# Altium schematic symbol library ATBN441JS.Schlib: 1 symbol
Pins are listed as number, name and electrical type; pins without a type are passive.

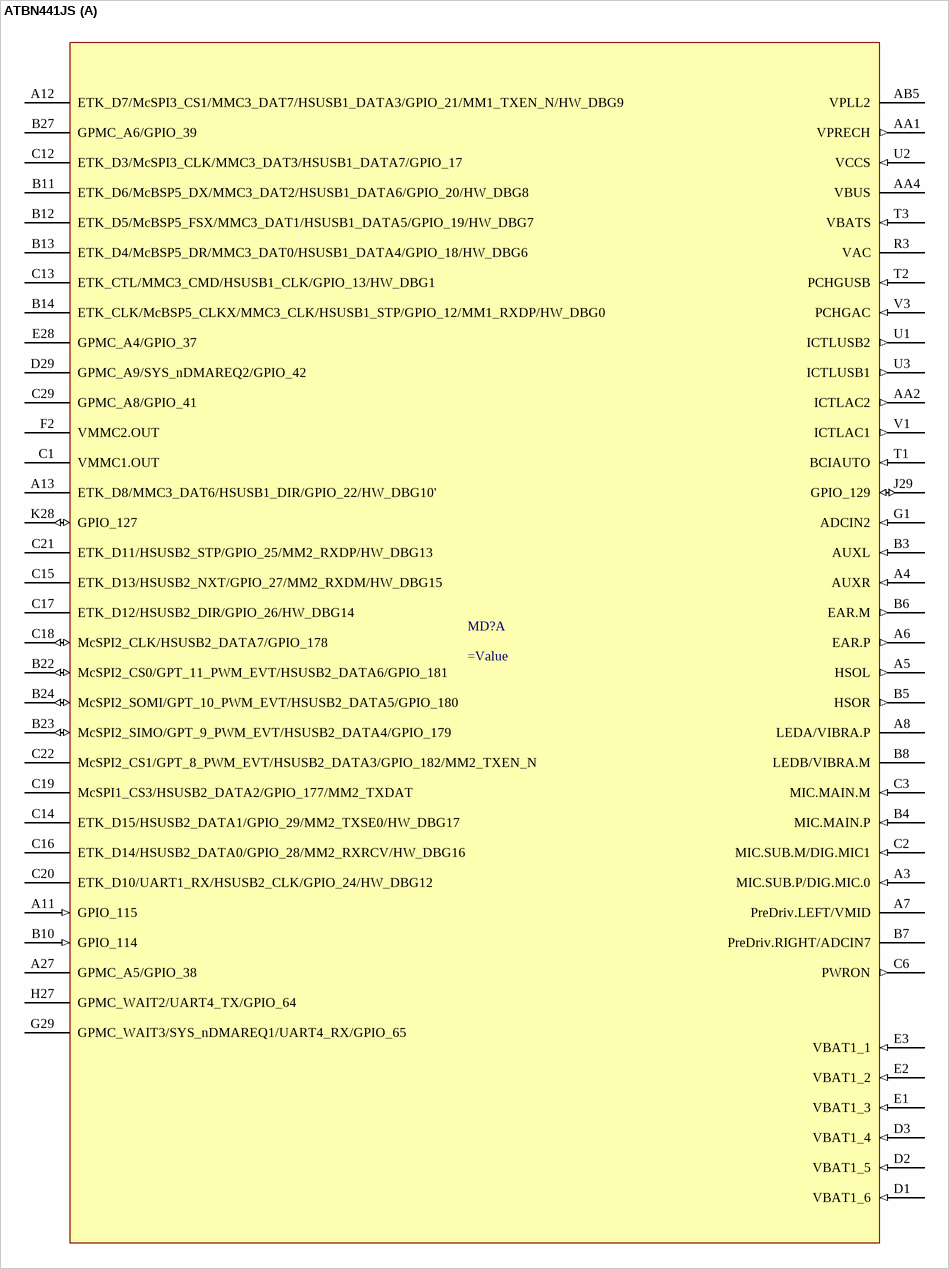
[diagram p0: symbol ATBN441JS]

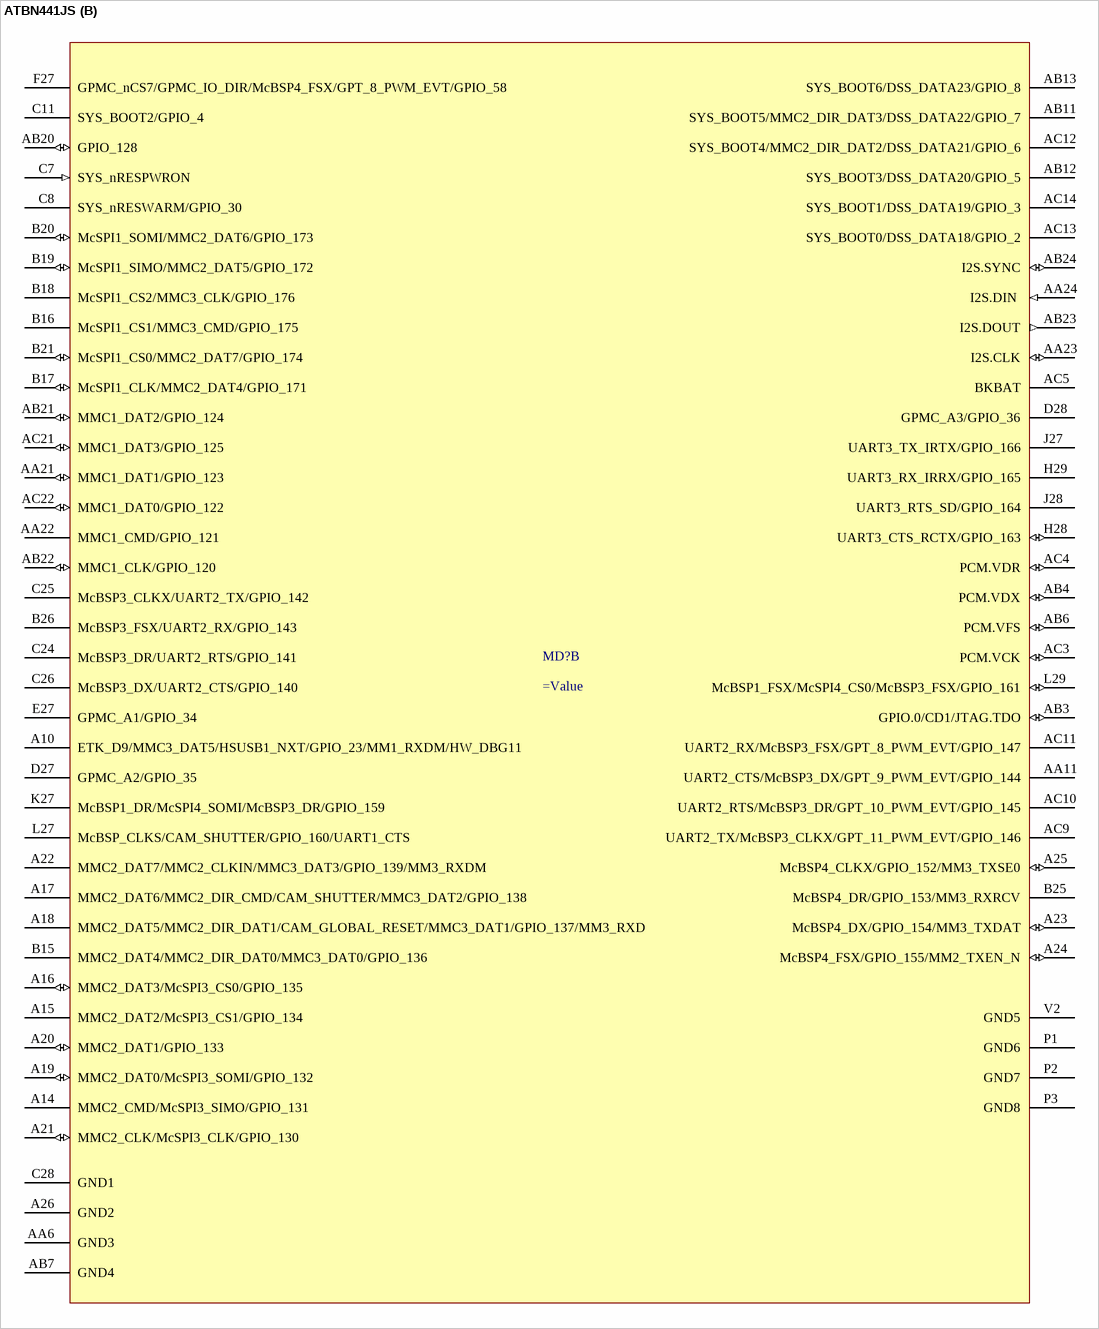
[diagram p1: symbol ATBN441JS]

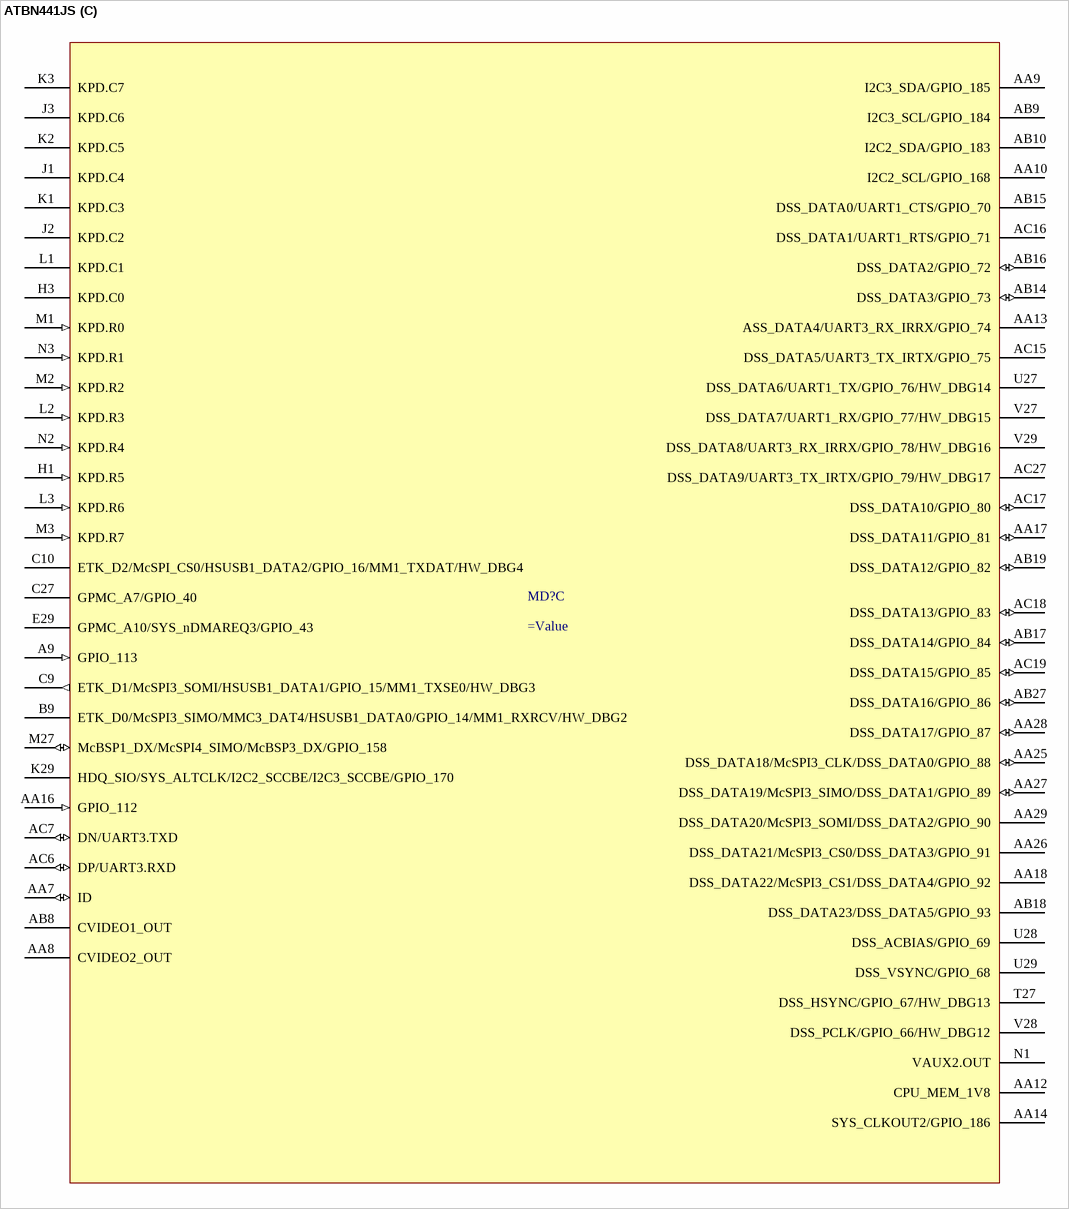
[diagram p2: symbol ATBN441JS]

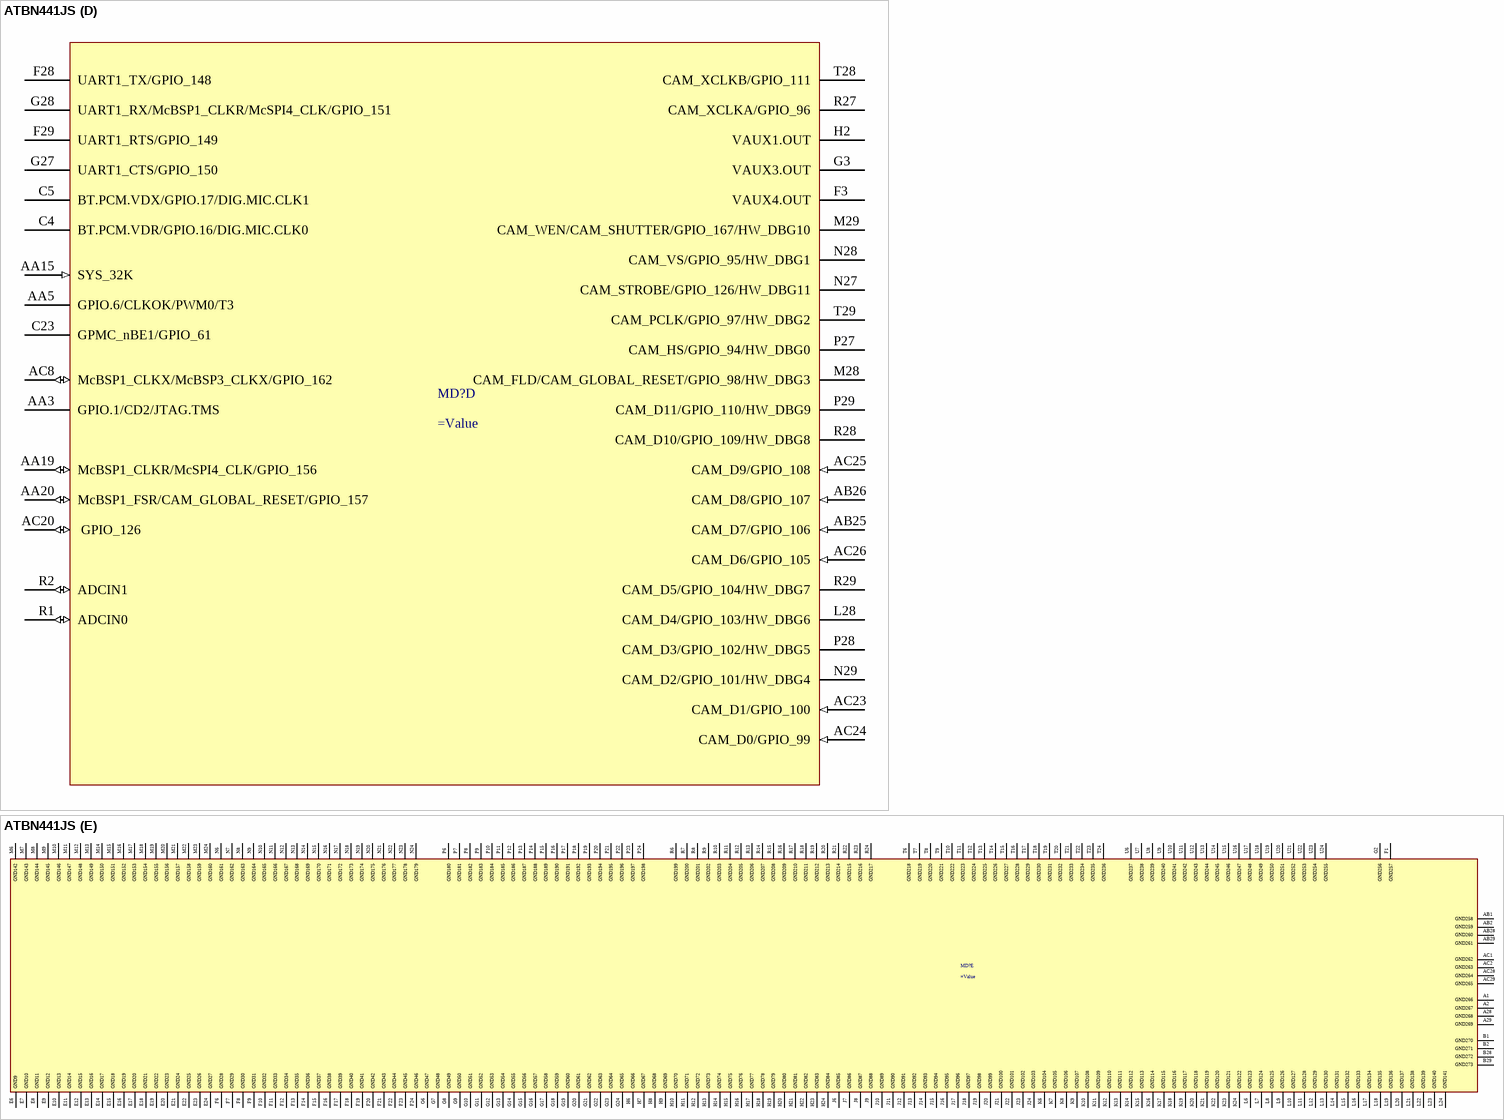
[diagram p3: symbol ATBN441JS]

## ATBN441JS
designator MD?
=Description
part A pins: A3 MIC.SUB.P/DIG.MIC.0 (in), A4 AUXR (in), A5 HSOL (out), A6 EAR.P (out), A7 PreDriv.LEFT/VMID, A8 LEDA/VIBRA.P, A11 GPIO_115 (in), A12 ETK_D7/McSPI3_CS1/MMC3_DAT7/HSUSB1_DATA3/GPIO_21/MM1_TXEN_N/HW_DBG9, A13 ETK_D8/MMC3_DAT6/HSUSB1_DIR/GPIO_22/HW_DBG10', A27 GPMC_A5/GPIO_38, AA1 VPRECH (out), AA2 ICTLAC2 (out), AA4 VBUS (power), AB5 VPLL2 (power), B3 AUXL (in), B4 MIC.MAIN.P (in), B5 HSOR (out), B6 EAR.M (out), B7 PreDriv.RIGHT/ADCIN7, B8 LEDB/VIBRA.M, B10 GPIO_114 (in), B11 ETK_D6/McBSP5_DX/MMC3_DAT2/HSUSB1_DATA6/GPIO_20/HW_DBG8, B12 ETK_D5/McBSP5_FSX/MMC3_DAT1/HSUSB1_DATA5/GPIO_19/HW_DBG7, B13 ETK_D4/McBSP5_DR/MMC3_DAT0/HSUSB1_DATA4/GPIO_18/HW_DBG6, B14 ETK_CLK/McBSP5_CLKX/MMC3_CLK/HSUSB1_STP/GPIO_12/MM1_RXDP/HW_DBG0, B22 McSPI2_CS0/GPT_11_PWM_EVT/HSUSB2_DATA6/GPIO_181 (io), B23 McSPI2_SIMO/GPT_9_PWM_EVT/HSUSB2_DATA4/GPIO_179 (io), B24 McSPI2_SOMI/GPT_10_PWM_EVT/HSUSB2_DATA5/GPIO_180 (io), B27 GPMC_A6/GPIO_39, C1 VMMC1.OUT (power), C2 MIC.SUB.M/DIG.MIC1 (in), C3 MIC.MAIN.M (in), C6 PWRON (out), C12 ETK_D3/McSPI3_CLK/MMC3_DAT3/HSUSB1_DATA7/GPIO_17, C13 ETK_CTL/MMC3_CMD/HSUSB1_CLK/GPIO_13/HW_DBG1, C14 ETK_D15/HSUSB2_DATA1/GPIO_29/MM2_TXSE0/HW_DBG17, C15 ETK_D13/HSUSB2_NXT/GPIO_27/MM2_RXDM/HW_DBG15, C16 ETK_D14/HSUSB2_DATA0/GPIO_28/MM2_RXRCV/HW_DBG16, C17 ETK_D12/HSUSB2_DIR/GPIO_26/HW_DBG14, C18 McSPI2_CLK/HSUSB2_DATA7/GPIO_178 (io), C19 McSPI1_CS3/HSUSB2_DATA2/GPIO_177/MM2_TXDAT, C20 ETK_D10/UART1_RX/HSUSB2_CLK/GPIO_24/HW_DBG12, C21 ETK_D11/HSUSB2_STP/GPIO_25/MM2_RXDP/HW_DBG13, C22 McSPI2_CS1/GPT_8_PWM_EVT/HSUSB2_DATA3/GPIO_182/MM2_TXEN_N, C29 GPMC_A8/GPIO_41, D1 VBAT1_6 (in), D2 VBAT1_5 (in), D3 VBAT1_4 (in), D29 GPMC_A9/SYS_nDMAREQ2/GPIO_42, E1 VBAT1_3 (in), E2 VBAT1_2 (in), E3 VBAT1_1 (in), E28 GPMC_A4/GPIO_37, F2 VMMC2.OUT (power), G1 ADCIN2 (in), G29 GPMC_WAIT3/SYS_nDMAREQ1/UART4_RX/GPIO_65, H27 GPMC_WAIT2/UART4_TX/GPIO_64, J29 GPIO_129 (io), K28 GPIO_127 (io), R3 VAC (power), T1 BCIAUTO (in), T2 PCHGUSB (in), T3 VBATS (in), U1 ICTLUSB2 (out), U2 VCCS (in), U3 ICTLUSB1 (out), V1 ICTLAC1 (out), V3 PCHGAC (in)
part B pins: A10 ETK_D9/MMC3_DAT5/HSUSB1_NXT/GPIO_23/MM1_RXDM/HW_DBG11, A14 MMC2_CMD/McSPI3_SIMO/GPIO_131, A15 MMC2_DAT2/McSPI3_CS1/GPIO_134, A16 MMC2_DAT3/McSPI3_CS0/GPIO_135 (io), A17 MMC2_DAT6/MMC2_DIR_CMD/CAM_SHUTTER/MMC3_DAT2/GPIO_138, A18 MMC2_DAT5/MMC2_DIR_DAT1/CAM_GLOBAL_RESET/MMC3_DAT1/GPIO_137/MM3_RXD, A19 MMC2_DAT0/McSPI3_SOMI/GPIO_132 (io), A20 MMC2_DAT1/GPIO_133 (io), A21 MMC2_CLK/McSPI3_CLK/GPIO_130 (io), A22 MMC2_DAT7/MMC2_CLKIN/MMC3_DAT3/GPIO_139/MM3_RXDM, A23 McBSP4_DX/GPIO_154/MM3_TXDAT (io), A24 McBSP4_FSX/GPIO_155/MM2_TXEN_N (io), A25 McBSP4_CLKX/GPIO_152/MM3_TXSE0 (io), A26 GND2 (power), AA6 GND3 (power), AA11 UART2_CTS/McBSP3_DX/GPT_9_PWM_EVT/GPIO_144, AA21 MMC1_DAT1/GPIO_123 (io), AA22 MMC1_CMD/GPIO_121, AA23 I2S.CLK (io), AA24 I2S.DIN  (in), AB3 GPIO.0/CD1/JTAG.TDO (io), AB4 PCM.VDX (io), AB6 PCM.VFS (io), AB7 GND4 (power), AB11 SYS_BOOT5/MMC2_DIR_DAT3/DSS_DATA22/GPIO_7, AB12 SYS_BOOT3/DSS_DATA20/GPIO_5, AB13 SYS_BOOT6/DSS_DATA23/GPIO_8, AB20 GPIO_128 (io), AB21 MMC1_DAT2/GPIO_124 (io), AB22 MMC1_CLK/GPIO_120 (io), AB23 I2S.DOUT (out), AB24 I2S.SYNC (io), AC3 PCM.VCK (io), AC4 PCM.VDR (io), AC5 BKBAT, AC9 UART2_TX/McBSP3_CLKX/GPT_11_PWM_EVT/GPIO_146, AC10 UART2_RTS/McBSP3_DR/GPT_10_PWM_EVT/GPIO_145, AC11 UART2_RX/McBSP3_FSX/GPT_8_PWM_EVT/GPIO_147, AC12 SYS_BOOT4/MMC2_DIR_DAT2/DSS_DATA21/GPIO_6, AC13 SYS_BOOT0/DSS_DATA18/GPIO_2, AC14 SYS_BOOT1/DSS_DATA19/GPIO_3, AC21 MMC1_DAT3/GPIO_125 (io), AC22 MMC1_DAT0/GPIO_122 (io), B15 MMC2_DAT4/MMC2_DIR_DAT0/MMC3_DAT0/GPIO_136, B16 McSPI1_CS1/MMC3_CMD/GPIO_175, B17 McSPI1_CLK/MMC2_DAT4/GPIO_171 (io), B18 McSPI1_CS2/MMC3_CLK/GPIO_176, B19 McSPI1_SIMO/MMC2_DAT5/GPIO_172 (io), B20 McSPI1_SOMI/MMC2_DAT6/GPIO_173 (io), B21 McSPI1_CS0/MMC2_DAT7/GPIO_174 (io), B25 McBSP4_DR/GPIO_153/MM3_RXRCV, B26 McBSP3_FSX/UART2_RX/GPIO_143, C7 SYS_nRESPWRON (in), C8 SYS_nRESWARM/GPIO_30, C11 SYS_BOOT2/GPIO_4, C24 McBSP3_DR/UART2_RTS/GPIO_141, C25 McBSP3_CLKX/UART2_TX/GPIO_142, C26 McBSP3_DX/UART2_CTS/GPIO_140, C28 GND1 (power), D27 GPMC_A2/GPIO_35, D28 GPMC_A3/GPIO_36, E27 GPMC_A1/GPIO_34, F27 GPMC_nCS7/GPMC_IO_DIR/McBSP4_FSX/GPT_8_PWM_EVT/GPIO_58, H28 UART3_CTS_RCTX/GPIO_163 (io), H29 UART3_RX_IRRX/GPIO_165, J27 UART3_TX_IRTX/GPIO_166, J28 UART3_RTS_SD/GPIO_164, K27 McBSP1_DR/McSPI4_SOMI/McBSP3_DR/GPIO_159, L27 McBSP_CLKS/CAM_SHUTTER/GPIO_160/UART1_CTS, L29 McBSP1_FSX/McSPI4_CS0/McBSP3_FSX/GPIO_161 (io), P1 GND6 (power), P2 GND7 (power), P3 GND8 (power), V2 GND5 (power)
part C pins: A9 GPIO_113 (in), AA7 ID (io), AA8 CVIDEO2_OUT, AA9 I2C3_SDA/GPIO_185, AA10 I2C2_SCL/GPIO_168, AA12 CPU_MEM_1V8 (power), AA13 ASS_DATA4/UART3_RX_IRRX/GPIO_74, AA14 SYS_CLKOUT2/GPIO_186, AA16 GPIO_112 (in), AA17 DSS_DATA11/GPIO_81 (io), AA18 DSS_DATA22/McSPI3_CS1/DSS_DATA4/GPIO_92, AA25 DSS_DATA18/McSPI3_CLK/DSS_DATA0/GPIO_88 (io), AA26 DSS_DATA21/McSPI3_CS0/DSS_DATA3/GPIO_91, AA27 DSS_DATA19/McSPI3_SIMO/DSS_DATA1/GPIO_89 (io), AA28 DSS_DATA17/GPIO_87 (io), AA29 DSS_DATA20/McSPI3_SOMI/DSS_DATA2/GPIO_90, AB8 CVIDEO1_OUT, AB9 I2C3_SCL/GPIO_184, AB10 I2C2_SDA/GPIO_183, AB14 DSS_DATA3/GPIO_73 (io), AB15 DSS_DATA0/UART1_CTS/GPIO_70, AB16 DSS_DATA2/GPIO_72 (io), AB17 DSS_DATA14/GPIO_84 (io), AB18 DSS_DATA23/DSS_DATA5/GPIO_93, AB19 DSS_DATA12/GPIO_82 (io), AB27 DSS_DATA16/GPIO_86 (io), AC6 DP/UART3.RXD (io), AC7 DN/UART3.TXD (io), AC15 DSS_DATA5/UART3_TX_IRTX/GPIO_75, AC16 DSS_DATA1/UART1_RTS/GPIO_71, AC17 DSS_DATA10/GPIO_80 (io), AC18 DSS_DATA13/GPIO_83 (io), AC19 DSS_DATA15/GPIO_85 (io), AC27 DSS_DATA9/UART3_TX_IRTX/GPIO_79/HW_DBG17, B9 ETK_D0/McSPI3_SIMO/MMC3_DAT4/HSUSB1_DATA0/GPIO_14/MM1_RXRCV/HW_DBG2, C9 ETK_D1/McSPI3_SOMI/HSUSB1_DATA1/GPIO_15/MM1_TXSE0/HW_DBG3 (out), C10 ETK_D2/McSPI_CS0/HSUSB1_DATA2/GPIO_16/MM1_TXDAT/HW_DBG4, C27 GPMC_A7/GPIO_40, E29 GPMC_A10/SYS_nDMAREQ3/GPIO_43, H1 KPD.R5 (in), H3 KPD.C0, J1 KPD.C4, J2 KPD.C2, J3 KPD.C6, K1 KPD.C3, K2 KPD.C5, K3 KPD.C7, K29 HDQ_SIO/SYS_ALTCLK/I2C2_SCCBE/I2C3_SCCBE/GPIO_170, L1 KPD.C1, L2 KPD.R3 (in), L3 KPD.R6 (in), M1 KPD.R0 (in), M2 KPD.R2 (in), M3 KPD.R7 (in), M27 McBSP1_DX/McSPI4_SIMO/McBSP3_DX/GPIO_158 (io), N1 VAUX2.OUT (power), N2 KPD.R4 (in), N3 KPD.R1 (in), T27 DSS_HSYNC/GPIO_67/HW_DBG13, U27 DSS_DATA6/UART1_TX/GPIO_76/HW_DBG14, U28 DSS_ACBIAS/GPIO_69, U29 DSS_VSYNC/GPIO_68, V27 DSS_DATA7/UART1_RX/GPIO_77/HW_DBG15, V28 DSS_PCLK/GPIO_66/HW_DBG12, V29 DSS_DATA8/UART3_RX_IRRX/GPIO_78/HW_DBG16
part D pins: AA3 GPIO.1/CD2/JTAG.TMS, AA5 GPIO.6/CLKOK/PWM0/T3, AA15 SYS_32K (in), AA19 McBSP1_CLKR/McSPI4_CLK/GPIO_156 (io), AA20 McBSP1_FSR/CAM_GLOBAL_RESET/GPIO_157 (io), AB25 CAM_D7/GPIO_106 (in), AB26 CAM_D8/GPIO_107 (in), AC8 McBSP1_CLKX/McBSP3_CLKX/GPIO_162 (io), AC20  GPIO_126 (io), AC23 CAM_D1/GPIO_100 (in), AC24 CAM_D0/GPIO_99 (in), AC25 CAM_D9/GPIO_108 (in), AC26 CAM_D6/GPIO_105 (in), C4 BT.PCM.VDR/GPIO.16/DIG.MIC.CLK0, C5 BT.PCM.VDX/GPIO.17/DIG.MIC.CLK1, C23 GPMC_nBE1/GPIO_61, F3 VAUX4.OUT (power), F28 UART1_TX/GPIO_148, F29 UART1_RTS/GPIO_149, G3 VAUX3.OUT (power), G27 UART1_CTS/GPIO_150, G28 UART1_RX/McBSP1_CLKR/McSPI4_CLK/GPIO_151, H2 VAUX1.OUT (power), L28 CAM_D4/GPIO_103/HW_DBG6, M28 CAM_FLD/CAM_GLOBAL_RESET/GPIO_98/HW_DBG3, M29 CAM_WEN/CAM_SHUTTER/GPIO_167/HW_DBG10, N27 CAM_STROBE/GPIO_126/HW_DBG11, N28 CAM_VS/GPIO_95/HW_DBG1, N29 CAM_D2/GPIO_101/HW_DBG4, P27 CAM_HS/GPIO_94/HW_DBG0, P28 CAM_D3/GPIO_102/HW_DBG5, P29 CAM_D11/GPIO_110/HW_DBG9, R1 ADCIN0 (io), R2 ADCIN1 (io), R27 CAM_XCLKA/GPIO_96, R28 CAM_D10/GPIO_109/HW_DBG8, R29 CAM_D5/GPIO_104/HW_DBG7, T28 CAM_XCLKB/GPIO_111, T29 CAM_PCLK/GPIO_97/HW_DBG2
part E pins: A1 GND266 (power), A2 GND267 (power), A28 GND268 (power), A29 GND269 (power), AB1 GND258 (power), AB2 GND259 (power), AB28 GND260 (power), AB29 GND261 (power), AC1 GND262 (power), AC2 GND263 (power), AC28 GND264 (power), AC29 GND265 (power), B1 GND270 (power), B2 GND271 (power), B28 GND272 (power), B29 GND273 (power), E6 GND9 (power), E7 GND10 (power), E8 GND11 (power), E9 GND12 (power), E10 GND13 (power), E11 GND14 (power), E12 GND15 (power), E13 GND16 (power), E14 GND17 (power), E15 GND18 (power), E16 GND19 (power), E17 GND20 (power), E18 GND21 (power), E19 GND22 (power), E20 GND23 (power), E21 GND24 (power), E22 GND25 (power), E23 GND26 (power), E24 GND27 (power), F1 GND257 (power), F6 GND28 (power), F7 GND29 (power), F8 GND30 (power), F9 GND31 (power), F10 GND32 (power), F11 GND33 (power), F12 GND34 (power), F13 GND35 (power), F14 GND36 (power), F15 GND37 (power), F16 GND38 (power), F17 GND39 (power), F18 GND40 (power), F19 GND41 (power), F20 GND42 (power), F21 GND43 (power), F22 GND44 (power), F23 GND45 (power), F24 GND46 (power), G2 GND256 (power), G6 GND47 (power), G7 GND48 (power), G8 GND49 (power), G9 GND50 (power), G10 GND51 (power), G11 GND52 (power), G12 GND53 (power), G13 GND54 (power), G14 GND55 (power), G15 GND56 (power), G16 GND57 (power), G17 GND58 (power), G18 GND59 (power), G19 GND60 (power), G20 GND61 (power), G21 GND62 (power), G22 GND63 (power), G23 GND64 (power), G24 GND65 (power), H6 GND66 (power), H7 GND67 (power), H8 GND68 (power), H9 GND69 (power), H10 GND70 (power), H11 GND71 (power), H12 GND72 (power), H13 GND73 (power), H14 GND74 (power), H15 GND75 (power), H16 GND76 (power), H17 GND77 (power), H18 GND78 (power), H19 GND79 (power), H20 GND80 (power), H21 GND81 (power), H22 GND82 (power), H23 GND83 (power), H24 GND84 (power), J6 GND85 (power), J7 GND86 (power), J8 GND87 (power), J9 GND88 (power), J10 GND89 (power), J11 GND90 (power), J12 GND91 (power), J13 GND92 (power), J14 GND93 (power), J15 GND94 (power), J16 GND95 (power), J17 GND96 (power), J18 GND97 (power), J19 GND98 (power), J20 GND99 (power), J21 GND100 (power), J22 GND101 (power), J23 GND102 (power), J24 GND103 (power), K6 GND104 (power), K7 GND105 (power), K8 GND106 (power), K9 GND107 (power), K10 GND108 (power), K11 GND109 (power), K12 GND110 (power), K13 GND111 (power), K14 GND112 (power), K15 GND113 (power), K16 GND114 (power), K17 GND115 (power), K18 GND116 (power), K19 GND117 (power), K20 GND118 (power), K21 GND119 (power), K22 GND120 (power), K23 GND121 (power), K24 GND122 (power), L6 GND123 (power), L7 GND124 (power), L8 GND125 (power), L9 GND126 (power), L10 GND127 (power), L11 GND128 (power), L12 GND129 (power), L13 GND130 (power), L14 GND131 (power), L15 GND132 (power), L16 GND133 (power), L17 GND134 (power), L18 GND135 (power), L19 GND136 (power), L20 GND137 (power), L21 GND138 (power), L22 GND139 (power), L23 GND140 (power), L24 GND141 (power), M6 GND142 (power), M7 GND143 (power), M8 GND144 (power), M9 GND145 (power), M10 GND146 (power), M11 GND147 (power), M12 GND148 (power), M13 GND149 (power), M14 GND150 (power), M15 GND151 (power), M16 GND152 (power), M17 GND153 (power), M18 GND154 (power), M19 GND155 (power), M20 GND156 (power), M21 GND157 (power), M22 GND158 (power), M23 GND159 (power), M24 GND160 (power), N6 GND161 (power), N7 GND162 (power), N8 GND163 (power), N9 GND164 (power), N10 GND165 (power), N11 GND166 (power), N12 GND167 (power), N13 GND168 (power), N14 GND169 (power), N15 GND170 (power), N16 GND171 (power), N17 GND172 (power), N18 GND173 (power), N19 GND174 (power), N20 GND175 (power), N21 GND176 (power), N22 GND177 (power), N23 GND178 (power), N24 GND179 (power), P6 GND180 (power), P7 GND181 (power), P8 GND182 (power), P9 GND183 (power), P10 GND184 (power), P11 GND185 (power), P12 GND186 (power), P13 GND187 (power), P14 GND188 (power), P15 GND189 (power), P16 GND190 (power), P17 GND191 (power), P18 GND192 (power), P19 GND193 (power), P20 GND194 (power), P21 GND195 (power), P22 GND196 (power), P23 GND197 (power), P24 GND198 (power), R6 GND199 (power), R7 GND200 (power), R8 GND201 (power), R9 GND202 (power), R10 GND203 (power), R11 GND204 (power), R12 GND205 (power), R13 GND206 (power), R14 GND207 (power), R15 GND208 (power), R16 GND209 (power), R17 GND210 (power), R18 GND211 (power), R19 GND212 (power), R20 GND213 (power), R21 GND214 (power), R22 GND215 (power), R23 GND216 (power), R24 GND217 (power), T6 GND218 (power), T7 GND219 (power), T8 GND220 (power), T9 GND221 (power), T10 GND222 (power), T11 GND223 (power), T12 GND224 (power), T13 GND225 (power), T14 GND226 (power), T15 GND227 (power), T16 GND228 (power), T17 GND229 (power), T18 GND230 (power), T19 GND231 (power), T20 GND232 (power), T21 GND233 (power), T22 GND234 (power), T23 GND235 (power), T24 GND236 (power), U6 GND237 (power), U7 GND238 (power), U8 GND239 (power), U9 GND240 (power), U10 GND241 (power), U11 GND242 (power), U12 GND243 (power), U13 GND244 (power), U14 GND245 (power), U15 GND246 (power), U16 GND247 (power), U17 GND248 (power), U18 GND249 (power), U19 GND250 (power), U20 GND251 (power), U21 GND252 (power), U22 GND253 (power), U23 GND254 (power), U24 GND255 (power)